# EAGLE library part VNI4140K (library VNI4140K)
Quad high-side smart power solid-state relay,power SSO-24
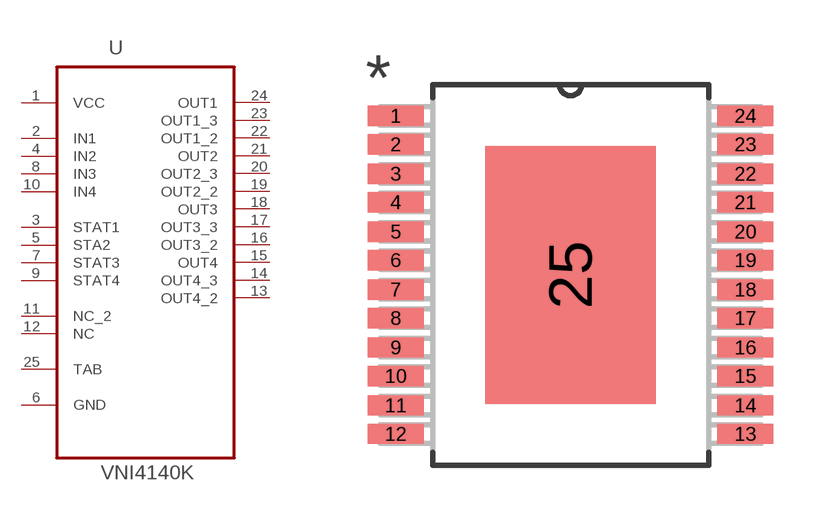
[diagram p0: symbol with the pads of SOP80P1030X247-25N; footprint SOP80P1030X247-25N]

Designator prefix U

## VNI4140K (MPN: VNI4140K; OC_FARNELL: 2309422; OC_NEWARK: 70W1089; PACKAGE: SO-24; SUPPLIER: STMICROELECTRONICS)  [SOP80P1030X247-25N]
1  VCC  pwr
2  IN1  in
3  STAT1  pas
4  IN2  in
5  STA2  pas
6  GND  pas
7  STAT3  pas
8  IN3  in
9  STAT4  pas
10  IN4  in
11  NC_2  nc
12  NC  nc
13  OUT4_2  out
14  OUT4_3  out
15  OUT4  out
16  OUT3_2  out
17  OUT3_3  out
18  OUT3  out
19  OUT2_2  out
20  OUT2_3  out
21  OUT2  out
22  OUT1_2  out
23  OUT1_3  out
24  OUT1  out
25  TAB  pwr

## Footprint SOP80P1030X247-25N (pad centres in mm)
smd 1.549 x 0.559: 1 -4.826,4.394; 2 -4.826,3.607; 3 -4.826,2.794; 4 -4.826,2.007; 5 -4.826,1.194; 6 -4.826,0.406; 7 -4.826,-0.406; 8 -4.826,-1.194; 9 -4.826,-2.007; 10 -4.826,-2.794; 11 -4.826,-3.607; 12 -4.826,-4.394; 13 4.826,-4.394; 14 4.826,-3.607; 15 4.826,-2.794; 16 4.826,-2.007; 17 4.826,-1.194; 18 4.826,-0.406; 19 4.826,0.406; 20 4.826,1.194; 21 4.826,2.007; 22 4.826,2.794; 23 4.826,3.607; 24 4.826,4.394
smd 4.699 x 7.112: 25 0,0